# EAGLE library part FST3384WM (library busswitch)
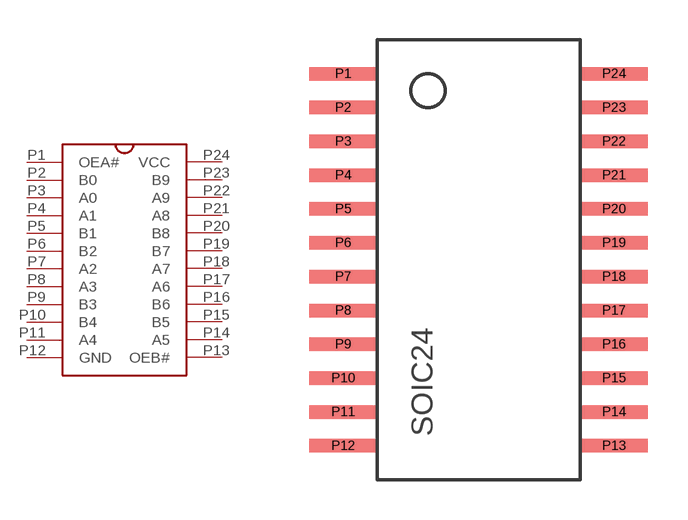
[diagram p1: symbol with the pads of SOIC24; footprint SOIC24]

Designator prefix -

## FST3384WM  [SOIC24]
P1  OEA#  in
P2  B0
P3  A0
P4  A1
P5  B1
P6  B2
P7  A2
P8  A3
P9  B3
P10  B4
P11  A4
P12  GND  pwr
P13  OEB#  in
P14  A5
P15  B5
P16  B6
P17  A6
P18  A7
P19  B7
P20  B8
P21  A8
P22  A9
P23  B9
P24  VCC  pwr

## Footprint SOIC24 (pad centres in mm)
smd 2.54 x 0.508: P1 -5.08,6.985; P2 -5.08,5.715; P3 -5.08,4.445; P4 -5.08,3.175; P5 -5.08,1.905; P6 -5.08,0.635; P7 -5.08,-0.635; P8 -5.08,-1.905; P9 -5.08,-3.175; P10 -5.08,-4.445; P11 -5.08,-5.715; P12 -5.08,-6.985; P13 5.08,-6.985; P14 5.08,-5.715; P15 5.08,-4.445; P16 5.08,-3.175; P17 5.08,-1.905; P18 5.08,-0.635; P19 5.08,0.635; P20 5.08,1.905; P21 5.08,3.175; P22 5.08,4.445; P23 5.08,5.715; P24 5.08,6.985